# EAGLE library part 5V-15A-VOLTAGE_CONVERTER (library myParts)
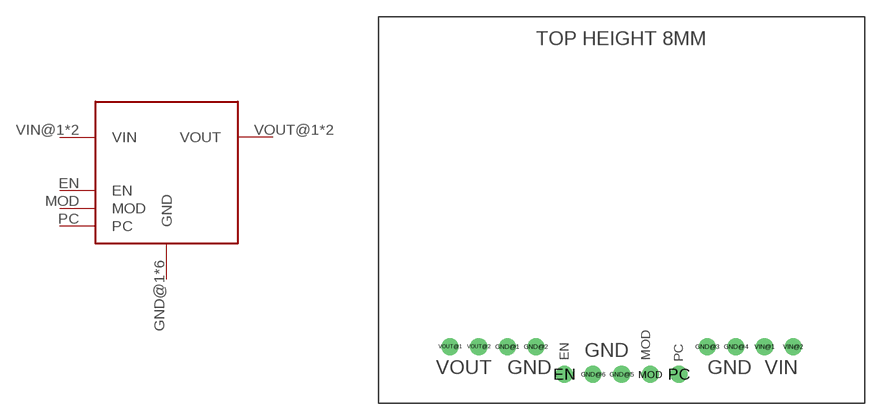
[diagram p3: symbol with the pads of D24V150F; footprint D24V150F]

Designator prefix -

## 5V-15A-VOLTAGE_CONVERTER  [D24V150F]
EN  EN
GND@1  GND
GND@2  GND
GND@3  GND
GND@4  GND
GND@5  GND
GND@6  GND
MOD  MOD
PC  PC
VIN@1  VIN
VIN@2  VIN
VOUT@1  VOUT
VOUT@2  VOUT

## Footprint D24V150F (pad centres in mm)
drill 1.016: EN -5.08,0; GND@1 -10.16,2.464; GND@2 -7.62,2.464; GND@3 7.62,2.464; GND@4 10.16,2.464; GND@5 0,0; GND@6 -2.54,0; MOD 2.54,0; PC 5.08,0; VIN@1 12.7,2.464; VIN@2 15.24,2.464; VOUT@1 -15.24,2.464; VOUT@2 -12.7,2.464